# Altium schematic symbol library LM555CMX_NOPB.SchLib: 1 symbol
Pins are listed as number, name and electrical type; pins without a type are passive.

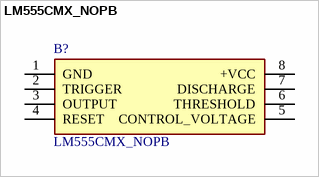
[diagram p0: symbol LM555CMX_NOPB]

## LM555CMX_NOPB
designator B?
Highly stable 555 timer for generating accurate time delays and oscillation; Manufacturer_Name: Texas Instruments; Manufacturer_Part_Number: LM555CMX/NOPB; Geometry.Height: 1.75mm; Mouser Part Number: 926-LM555CMX/NOPB; Mouser Price/Stock: https://www.mouser.co.uk/ProductDetail/Texas-Instruments/LM555CMX-NOPB?qs=QbsRYf82W3GHnQuoL%2FmIoA%3D%3D; Datasheet Link: http://www.ti.com/lit/ds/symlink/lm555.pdf
footprint SOIC127P600X175-8N
pins: 1 GND, 2 TRIGGER, 3 OUTPUT, 4 RESET, 5 CONTROL_VOLTAGE, 6 THRESHOLD, 7 DISCHARGE, 8 +VCC